# Altium footprint library RESC1005X40N.PCBLIB: 1 footprints
Each footprint in its own frame and in the unit in brackets; x right, y up, seen from the top. Pads: shape width x height; smd on the part's side, far side on the other; paste and mask are expansions set on the pad; w line width, h text height; cw(c..) or ccw(c..) is an arc to the next point about the centre after c.
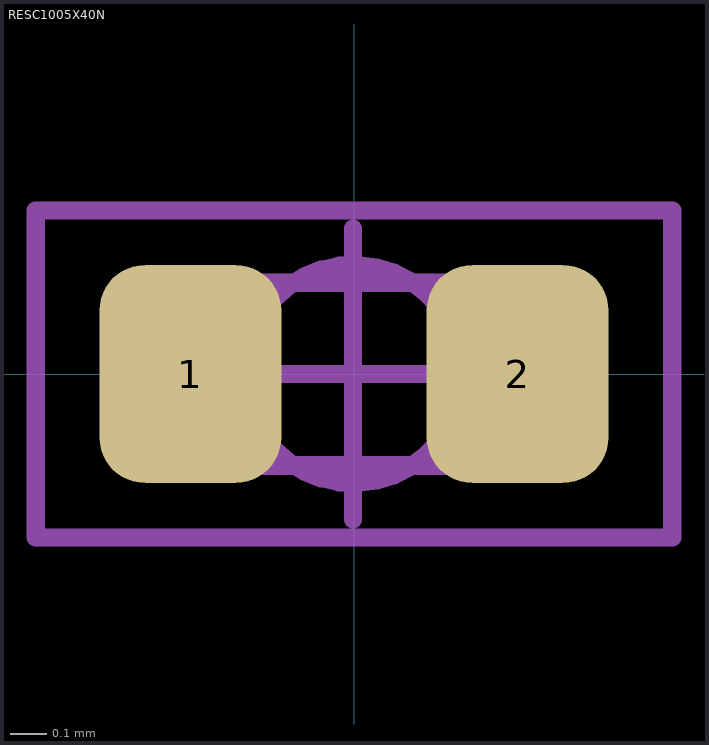
[diagram p0: the footprint, top view; thin cyan lines are the x and y axes]

## RESC1005X40N [mm] "RES NOMINAL 0402 (1005 Metric)"
height 0.4
pads (2):
  rrect50% 0.5x0.6 smd: 1(-0.45,0) 2(0.45,0)
Mechanical 13:
  lines w0.001: -0.527,-0.275 -0.502,-0.275 0.497,-0.275 0.523,-0.275 0.523,-0.25 0.523,0.25 0.523,0.275 -0.502,0.275 -0.527,0.275 -0.527,0.25 -0.527,-0.25 -0.527,-0.275
  lines w0.05: -0.502,-0.25 0.497,-0.25 0.497,0.25 -0.502,0.25 -0.502,-0.25
Mechanical 15:
  circle w0.05: c-0.002,0 r0.3
  lines w0.05: -0.402,0 0.397,0 ; -0.002,-0.4 -0.002,0.4 ; -0.875,-0.45 0.875,-0.45 0.875,0.45 -0.875,0.45 -0.875,-0.45
3D body: height 0.4, standoff 0.05, extent -0.277,-0.275 0.273,0.275
3D body: height 0.4, standoff 0.05, extent -0.527,-0.275 -0.277,0.275
3D body: height 0.4, standoff 0.05, extent 0.273,-0.275 0.523,0.275